# Altium footprint library adafruit.PCBLIB: 643 footprints (part 40 of 41)
Each footprint in its own frame and in the unit in brackets; x right, y up, seen from the top. Pads: shape width x height; smd on the part's side, far side on the other; paste and mask are expansions set on the pad; w line width, h text height; cw(c..) or ccw(c..) is an arc to the next point about the centre after c.
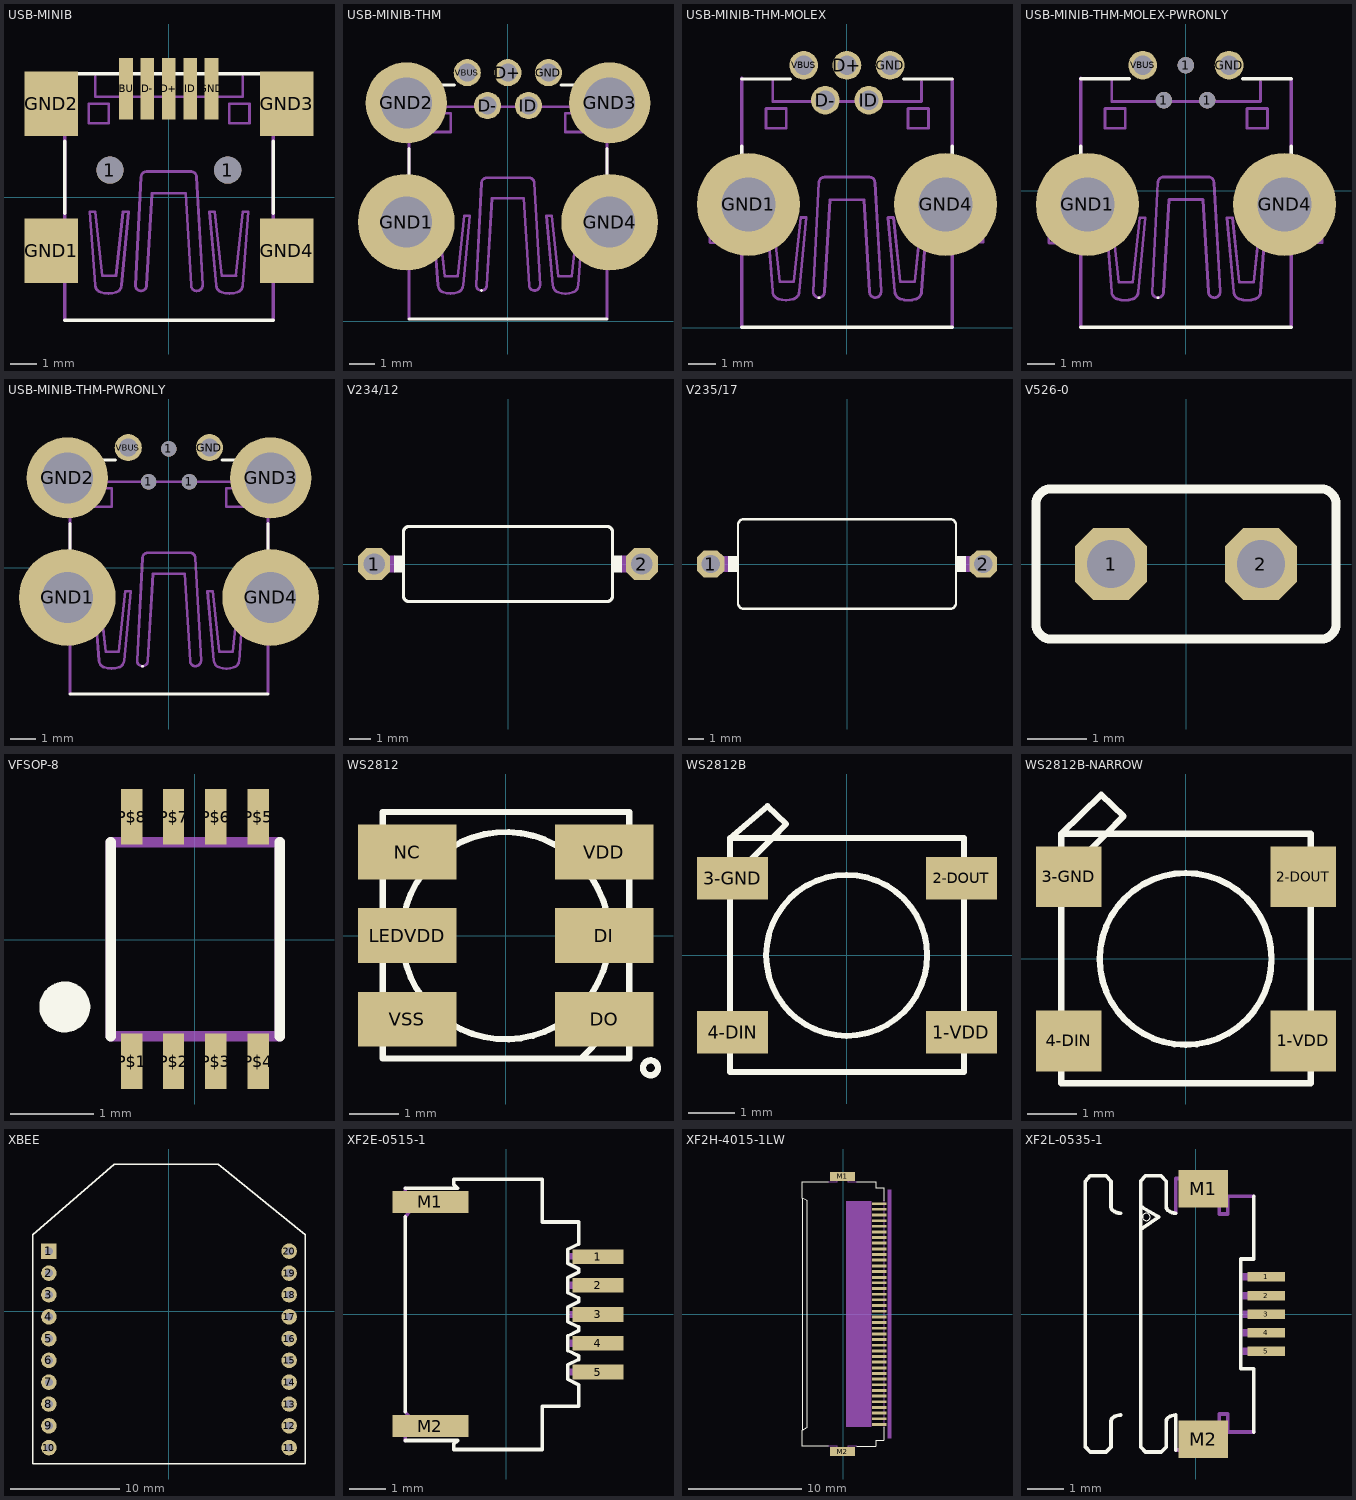
[diagram p39: the footprints below, top view; thin cyan lines are the x and y axes]

## USB-MINIB [mil]
pads (11):
  round 40 hole 40: 1(-86.61,40) 1(87,40)
  rect 20x91 smd: D+(0,160) D-(-31.5,160) GND(63,160) ID(32,160) VBUS(-62.99,160)
  rect 79x95 smd: GND1(-173.23,-78.74) GND2(-173.23,138) GND3(174,138) GND4(174,-78.74)
Top Overlay:
  lines w5: -153.54,-181.1 154,-181.1 ; -153.54,-23.62 -153.54,83 ; -153.54,182 154,182 ; -125.98,182 -82.68,182 ; 83,182 126,182 ; 154,-23.62 154,83
Courtyard Bottom:
  lines w4: -200,-105.12 -200,-91.34 ccw(c-200,-79.53) -200,-67.72 -200,-51.97 ; -200,113 -200,127 ccw(c-200,139) -200,151 -200,167 ; -199.21,-105.49 -153.94,-105.49 ; -199.21,-51.21 -153.94,-51.21 ; -199.21,113 -153.94,113 ; -199.21,167 -153.94,167 ; -108.27,178 -108.27,148 109,148 109,178 ; -40.88,-138.04 cw(c-40.88,-129.86) -49.05,-129.86 -40.88,30 cw(c-32.33,29.44) -32.7,38 33,38 cw(c32.54,29.54) 41,30 50,-129.86 cw(c41.41,-129.45) 41,-138.04 cw(c41.09,-129.95) 33,-129.86 25,6 -24.54,6 -32.7,-129.86 cw(c-40.87,-129.86) -40.87,-138.04 ; 153,-104.69 199,-104.69 ; 153,-50.42 199,-50.42 ; 153,114 199,114 ; 153,168 199,168 199,154 ccw(c199,142) 199,130 199,115 ; 199,-103.94 199,-88.19 cw(c199,-76.38) 199,-64.57 199,-50.79 ; -118.11,109 -88.58,109 -88.58,138 -118.11,138 -118.11,109 ; -116.5,-21.54 -108.32,-129.86 ccw(c-96.75,-128.98) -100.15,-140.08 ccw(c-88.91,-103.42) -77.67,-140.08 ccw(c-81.06,-128.98) -69.49,-129.86 -59.27,-21.54 -67.45,-21.54 -77.67,-115.56 -98.11,-115.56 -108.32,-21.54 -116.5,-21.54 ; 60,-21.54 70,-129.86 ccw(c81.48,-129.11) 78,-140.08 ccw(c89.5,-102.58) 101,-140.08 ccw(c97.52,-129.11) 109,-129.86 117,-21.54 109,-21.54 99,-115.56 78,-115.56 68,-21.54 60,-21.54 ; 89,109 89,138 119,138 119,109 89,109
  lines w5: -153.54,-181.1 -153.54,-106.3 ; -153.54,-50.79 -153.54,111 ; -153.54,168 -153.54,182 ; 154,-181.1 154,-106.3 ; 154,-48.82 154,113 ; 154,170 154,182

## USB-MINIB-THM [mil]
pads (9):
  round 42 hole 28: D+(0,386) D-(-31.5,335) GND(63,386) ID(32,335) VBUS(-62.99,386)
  round 150 hole 79: GND1(-157.48,154) GND4(158,154)
  round 126 hole 79: GND2(-157.48,339) GND3(158,339)
Top Overlay:
  lines w4: -40.88,48 -40.87,48
  lines w5: -153.54,4 154,4 ; -153.54,162 -153.54,268 ; -125.98,367 -82.68,367 ; 83,367 126,367 ; 154,186 154,268
Courtyard Bottom:
  lines w4: -200,128 -200,141 ccw(c-200,153) -200,165 -200,181 ; -200,299 -200,312 ccw(c-200,324) -200,336 -200,352 ; -199.21,127 -153.94,127 ; -199.21,182 -153.94,182 ; -199.21,298 -153.94,298 ; -199.21,352 -153.94,352 ; -108.27,363 -108.27,333 109,333 109,363 ; -40.88,48 cw(c-40.96,56.09) -49.05,56 -40.88,215 cw(c-32.33,214.44) -32.7,223 33,223 cw(c32.54,214.54) 41,215 50,56 cw(c41.5,56.5) 41,48 cw(c41,56) 33,56 25,191 -24.54,191 -32.7,56 cw(c-40.79,56.09) -40.87,48 ; 153,128 199,128 ; 153,182 199,182 199,168 ccw(c199,156.5) 199,145 199,129 ; 153,299 199,299 ; 153,353 199,353 199,339 ccw(c199,327) 199,315 199,300 ; -118.11,294 -88.58,294 -88.58,323 -118.11,323 -118.11,294 ; -116.5,164 -108.32,56 ccw(c-96.18,56.49) -100.15,45 ccw(c-88.91,81.66) -77.67,45 ccw(c-81.64,56.49) -69.49,56 -59.27,164 -67.45,164 -77.67,70 -98.11,70 -108.32,164 -116.5,164 ; 60,164 70,56 ccw(c82.06,56.36) 78,45 ccw(c89.5,82.5) 101,45 ccw(c96.94,56.36) 109,56 117,164 109,164 99,70 78,70 68,164 60,164 ; 89,294 89,323 119,323 119,294 89,294
  lines w5: -153.54,4 -153.54,126 ; -153.54,182 -153.54,296 ; -153.54,353 -153.54,367 ; 154,4 154,126 ; 154,184 154,298 ; 154,355 154,367

## USB-MINIB-THM-MOLEX [mil]
pads (7):
  round 42 hole 28: D+(0,383) D-(-31.5,332) GND(63,383) ID(32,332) VBUS(-62.99,383)
  round 150 hole 79: GND1(-143.7,180) GND4(144,180)
Top Overlay:
  lines w4: -40.88,44 -40.87,44
  lines w5: -153.54,1 154,1 ; -153.54,159 -153.54,265 ; -153.54,363 -82.68,363 ; 83,363 154,363 ; 154,182 154,265
Courtyard Bottom:
  lines w4: -200,125 -200,138 ccw(c-200,150) -200,162 -200,178 ; -199.21,124 -153.94,124 ; -199.21,178 -153.94,178 ; -108.27,360 -108.27,330 109,330 109,360 ; -40.88,44 cw(c-40.46,52.59) -49.05,53 -40.88,212 cw(c-32.33,211.44) -32.7,220 33,220 cw(c32.54,211.54) 41,212 50,53 cw(c41,53) 41,44 cw(c41.5,52.5) 33,53 25,187 -24.54,187 -32.7,53 cw(c-41.29,52.59) -40.87,44 ; 153,125 199,125 ; 153,179 199,179 199,165 ccw(c199,153) 199,141 199,126 ; -118.11,291 -88.58,291 -88.58,320 -118.11,320 -118.11,291 ; -116.5,161 -108.32,53 ccw(c-96.18,53.49) -100.15,42 ccw(c-88.91,78.66) -77.67,42 ccw(c-81.64,53.49) -69.49,53 -59.27,161 -67.45,161 -77.67,67 -98.11,67 -108.32,161 -116.5,161 ; 60,161 70,53 ccw(c82.06,53.36) 78,42 ccw(c89.5,79.5) 101,42 ccw(c96.94,53.36) 109,53 117,161 109,161 99,67 78,67 68,161 60,161 ; 89,291 89,320 119,320 119,291 89,291
  lines w5: -153.54,1 -153.54,123 ; -153.54,179 -153.54,364 ; 154,1 154,123 ; 154,181 154,362

## USB-MINIB-THM-MOLEX-PWRONLY [mil]
pads (7):
  round 24 hole 24: 1(-32,132) 1(0,183) 1(31,132)
  round 42 hole 28: GND(63,183) VBUS(-62.99,183)
  round 150 hole 79: GND1(-143.7,-20.08) GND4(144,-20.08)
Top Overlay:
  lines w4: -40.88,-156.15 -40.87,-156.15
  lines w5: -153.54,-199.21 154,-199.21 ; -153.54,-41.73 -153.54,65 ; -153.54,163 -82.68,163 ; 83,163 154,163 ; 154,-18.11 154,65
Courtyard Bottom:
  lines w4: -200,-75.98 -200,-62.2 ccw(c-200,-50.39) -200,-38.58 -200,-22.83 ; -199.21,-76.35 -153.94,-76.35 ; -199.21,-22.08 -153.94,-22.08 ; -108.27,160 -108.27,130 109,130 109,160 ; -40.88,-156.15 cw(c-40.88,-147.97) -49.05,-147.97 -40.88,12 cw(c-32.33,11.44) -32.7,20 33,20 cw(c32.54,11.54) 41,12 50,-147.97 cw(c41.41,-147.56) 41,-156.15 cw(c41.09,-148.06) 33,-147.97 25,-13.08 -24.54,-13.08 -32.7,-147.97 cw(c-40.87,-147.97) -40.87,-156.15 ; 153,-75.56 199,-75.56 ; 153,-21.28 199,-21.28 ; 199,-74.8 199,-59.06 cw(c199,-47.24) 199,-35.43 199,-21.65 ; -118.11,91 -88.58,91 -88.58,120 -118.11,120 -118.11,91 ; -116.5,-39.65 -108.32,-147.97 ccw(c-96.75,-147.09) -100.15,-158.19 ccw(c-88.91,-121.53) -77.67,-158.19 ccw(c-81.06,-147.09) -69.49,-147.97 -59.27,-39.65 -67.45,-39.65 -77.67,-133.67 -98.11,-133.67 -108.32,-39.65 -116.5,-39.65 ; 60,-39.65 70,-147.97 ccw(c81.48,-147.22) 78,-158.19 ccw(c89.5,-120.69) 101,-158.19 ccw(c97.52,-147.22) 109,-147.97 117,-39.65 109,-39.65 99,-133.67 78,-133.67 68,-39.65 60,-39.65 ; 89,91 89,120 119,120 119,91 89,91
  lines w5: -153.54,-199.21 -153.54,-77.17 ; -153.54,-21.65 -153.54,164 ; 154,-199.21 154,-77.17 ; 154,-19.68 154,162

## USB-MINIB-THM-PWRONLY [mil]
pads (9):
  round 24 hole 24: 1(-31.5,133) 1(0,184) 1(32,133)
  round 42 hole 28: GND(63,186) VBUS(-62.99,186)
  round 150 hole 79: GND1(-157.48,-46.46) GND4(158,-46.46)
  round 126 hole 79: GND2(-157.48,139) GND3(158,139)
Top Overlay:
  lines w4: -40.88,-153 -40.87,-153
  lines w5: -153.54,-196.06 154,-196.06 ; -153.54,-38.58 -153.54,68 ; -125.98,167 -82.68,167 ; 83,167 126,167 ; 154,-14.96 154,68
Courtyard Bottom:
  lines w4: -200,-72.83 -200,-59.06 ccw(c-200,-47.24) -200,-35.43 -200,-19.68 ; -200,99 -200,112 ccw(c-200,124) -200,136 -200,152 ; -199.21,-73.2 -153.94,-73.2 ; -199.21,-18.93 -153.94,-18.93 ; -199.21,98 -153.94,98 ; -199.21,152 -153.94,152 ; -108.27,163 -108.27,133 109,133 109,163 ; -40.88,-153 cw(c-40.88,-144.82) -49.05,-144.82 -40.88,15 cw(c-32.33,14.44) -32.7,23 33,23 cw(c32.54,14.54) 41,15 50,-144.82 cw(c41.41,-144.41) 41,-153 cw(c41.09,-144.91) 33,-144.82 25,-9.93 -24.54,-9.93 -32.7,-144.82 cw(c-40.87,-144.82) -40.87,-153 ; 153,-72.41 199,-72.41 ; 153,-18.13 199,-18.13 ; 153,99 199,99 ; 153,153 199,153 199,139 ccw(c199,127) 199,115 199,100 ; 199,-71.65 199,-55.91 cw(c199,-44.09) 199,-32.28 199,-18.5 ; -118.11,94 -88.58,94 -88.58,123 -118.11,123 -118.11,94 ; -116.5,-36.5 -108.32,-144.82 ccw(c-96.75,-143.94) -100.15,-155.04 ccw(c-88.91,-118.38) -77.67,-155.04 ccw(c-81.06,-143.94) -69.49,-144.82 -59.27,-36.5 -67.45,-36.5 -77.67,-130.52 -98.11,-130.52 -108.32,-36.5 -116.5,-36.5 ; 60,-36.5 70,-144.82 ccw(c81.48,-144.07) 78,-155.04 ccw(c89.5,-117.54) 101,-155.04 ccw(c97.52,-144.07) 109,-144.82 117,-36.5 109,-36.5 99,-130.52 78,-130.52 68,-36.5 60,-36.5 ; 89,94 89,123 119,123 119,94 89,94
  lines w5: -153.54,-196.06 -153.54,-74.02 ; -153.54,-18.5 -153.54,96 ; -153.54,153 -153.54,167 ; 154,-196.06 154,-74.02 ; 154,-16.54 154,98 ; 154,155 154,167

## V234/12 [mil]
pads (2):
  oct 60x60 hole 40: 1(-250,0) 2(250,0)
Top Overlay:
  rectangle: 195,-16 213,16
  rectangle: -213,-16 -195,16
  lines w6: -195,-60 ccw(c-185,-60) -185,-70 185,-70 ccw(c185,-60) 195,-60 195,60 ccw(c185,60) 185,70 -185,70 ccw(c-185,60) -195,60 -195,-60
Courtyard Bottom:
  lines w32: -250,0 -215,0 ; 215,0 250,0

## V235/17 [mil]
pads (2):
  oct 70.5x70.5 hole 47: 1(-350,0) 2(350,0)
Top Overlay:
  rectangle: 280,-20 305,20
  rectangle: -305,-20 -280,20
  lines w6: -280,-100 -280,100 cw(c-265,100) -265,115 265,115 cw(c265,100) 280,100 280,-100 cw(c265,-100) 265,-115 -265,-115 cw(c-265,-100) -280,-100
Courtyard Bottom:
  lines w40: -350,0 -310,0 ; 310,0 350,0

## V526-0 [mil]
pads (2):
  oct 48x48 hole 32: 1(-50,0) 2(50,0)
Top Overlay:
  lines w6: -100,-40 ccw(c-90,-40) -90,-50 90,-50 ccw(c90,-40) 100,-40 100,40 ccw(c90,40) 90,50 -90,50 ccw(c-90,40) -100,40 -100,-40

## VFSOP-8 [mil]
pads (8):
  rect 10x26 smd: P$1(-29.53,-57.09) P$2(-9.84,-57.09) P$3(10,-57.09) P$4(30,-57.09) P$5(30,58) P$6(10,58) P$7(-9.84,58) P$8(-29.53,58)
Top Overlay:
  circle w12: c-61.02,-31.5 r6
  lines w5: -39.37,-45.28 -39.37,46 ; 40,-45.28 40,46
Courtyard Bottom:
  rectangle: -13.78,-61.02 -5.91,-45.28
  rectangle: -33.46,-61.02 -25.59,-45.28
  rectangle: 6,-61.02 14,-45.28
  rectangle: 26,-61.02 34,-45.28
  rectangle: 26,46 34,62
  rectangle: 6,46 14,62
  rectangle: -13.78,46 -5.91,62
  rectangle: -33.46,46 -25.59,62
  lines w5: -39.37,-45.28 40,-45.28 40,46 -39.37,46 -39.37,-45.28

## WS2812 [mil]
pads (6):
  rect 79x44 smd: DI(79,0) DO(79,-66.93) LEDVDD(-78.74,0) NC(-78.74,67) VDD(79,67) VSS(-78.74,-66.93)
Top Overlay:
  circle w5: c116,-105.83 r6
  circle w5: c0,0 r83
  lines w5: 60,-98.43 99,-98.43 99,-59.06 ; 60,-98.43 -98.43,-98.43 -98.43,99 99,99 99,-59.06 ; 60,-98.43 99,-59.06

## WS2812B [mil]
pads (4):
  rect 60x36 smd: 1-VDD(97,-64.96) 2-DOUT(97,65) 3-GND(-96.46,65) 4-DIN(-96.46,-64.96)
Top Overlay:
  circle w5: c0,0 r68
  lines w5: -98.43,63 -98.43,-98.43 99,-98.43 99,99 -62.99,99 ; -98.43,63 -98.43,99 ; -98.43,63 -62.99,99 ; -98.43,99 -62.99,99 ; -98.43,99 -66.93,126 -51.18,111 -62.99,99

## WS2812B-NARROW [mil]
pads (4):
  rect 52x48 smd: 1-VDD(93,-64.96) 2-DOUT(93,65) 3-GND(-92.52,65) 4-DIN(-92.52,-64.96)
Top Overlay:
  circle w5: c0,0 r68
  lines w5: -98.43,63 -98.43,-98.43 99,-98.43 99,99 -62.99,99 ; -98.43,63 -98.43,99 ; -98.43,63 -62.99,99 ; -98.43,99 -62.99,99 ; -98.43,99 -66.93,130 -49.21,113 -62.99,99

## XBEE [mil]
pads (20):
  rect 56x56 hole 28: 1(-433.07,217)
  round 56 hole 28: 2(-433.07,138) 3(-433.07,60) 4(-433.07,-19.68) 5(-433.07,-98.43) 6(-433.07,-177.17) 7(-433.07,-255.91) 8(-433.07,-334.65) 9(-433.07,-413.39) 10(-433.07,-492.13) 11(434,-492.13) 12(434,-413.39) 13(434,-334.65) 14(434,-255.91) 15(434,-177.17) 16(434,-98.43) 17(434,-19.68) 18(434,60) 19(434,138) 20(434,217)
Top Overlay:
  lines w5: -492.13,-551.18 493,-551.18 493,276 178,532 -196.85,532 -492.13,276 -492.13,-551.18

## XF2E-0515-1 [mil]
pads (7):
  rect 56x16 smd: 1(100,63) 2(100,32) 3(100,0) 4(100,-31.5) 5(100,-62.99)
  rect 83x24 smd: M1(-83.07,123) M2(-83.07,-122.05)
Top Overlay:
  lines w4: -110.63,-137.8 -53.54,-137.8 -57.48,-141.73 -57.48,-147.64 39,-147.64 39,-100.39 79,-100.39 79,-76.77 67,-70.87 67,-55.12 79,-49.21 79,-45.28 67,-39.37 67,-23.62 79,-17.72 79,-13.78 67,-7.87 67,8 79,14 79,18 67,24 67,40 79,46 79,50 67,56 67,71 79,77 79,101 39,101 39,148 -57.48,148 -57.48,142 -53.54,138 -110.63,138 ; -110.63,-106.3 -110.63,107
Courtyard Bottom:
  rectangle: 69,60 108,67
  rectangle: 69,28 108,36
  rectangle: 69,-3.94 108,4
  rectangle: 69,-35.43 108,-27.56
  rectangle: 69,-66.93 108,-59.06
  lines w4: -110.63,-137.8 -110.63,-116.14 -102.76,-116.14 -110.63,-106.3 ; -110.63,107 -102.76,117 -110.63,117 -110.63,138

## XF2H-4015-1LW [mil]
pads (42):
  rect 52x10 smd: 1(125,384) 2(125,365) 3(125,345) 4(125,325) 5(125,306) 6(125,286) 7(125,266) 8(125,247) 9(125,227) 10(125,207) 11(125,188) 12(125,168) 13(125,148) 14(125,128) 15(125,109) 16(125,89) 17(125,69) 18(125,50) 19(125,30) 20(125,10) 21(125,-9.84) 22(125,-29.53) 23(125,-49.21) 24(125,-68.9) 25(125,-88.58) 26(125,-108.27) 27(125,-127.95) 28(125,-147.64) 29(125,-167.32) 30(125,-187.01) 31(125,-206.69) 32(125,-226.38) 33(125,-246.06) 34(125,-265.75) 35(125,-285.43) 36(125,-305.12) 37(125,-324.8) 38(125,-344.49) 39(125,-364.17) 40(125,-383.86)
  rect 87x32 smd: M1(-2.95,479) M2(-2.95,-478.35)
Top Overlay:
  lines w4: -52.17,-460.63 -142.72,-460.63 -142.72,-403.54 ; -52.17,461 -142.72,461 -142.72,404 ; 47,-460.63 112,-460.63 112,-438.98 141,-438.98 141,-393.7 ; 47,461 112,461 112,439 141,439 141,394 ; -142.72,-403.54 -125,-393.7 -125,394 -142.72,404 ; -142.72,-403.54 -142.72,404
Top Solder:
  rectangle: 98,377 153,391
  rectangle: 98,358 153,372
  rectangle: 98,338 153,352
  rectangle: 98,318 153,332
  rectangle: 98,299 153,313
  rectangle: 98,279 153,293
  rectangle: 98,259 153,273
  rectangle: 98,240 153,253
  rectangle: 98,220 153,234
  rectangle: 98,200 153,214
  rectangle: 98,181 153,194
  rectangle: 98,161 153,175
  rectangle: 98,141 153,155
  rectangle: 98,122 153,135
  rectangle: 98,102 153,116
  rectangle: 98,82 153,96
  rectangle: 98,63 153,76
  rectangle: 98,43 153,57
  rectangle: 98,23 153,37
  rectangle: 98,3 153,17
  rectangle: 98,-16.73 153,-2.95
  rectangle: 98,-36.42 153,-22.64
  rectangle: 98,-56.1 153,-42.32
  rectangle: 98,-75.79 153,-62.01
  rectangle: 98,-95.47 153,-81.69
  rectangle: 98,-115.16 153,-101.38
  rectangle: 98,-134.84 153,-121.06
  rectangle: 98,-154.53 153,-140.75
  rectangle: 98,-174.21 153,-160.43
  rectangle: 98,-193.9 153,-180.12
  rectangle: 98,-213.58 153,-199.8
  rectangle: 98,-233.27 153,-219.49
  rectangle: 98,-252.95 153,-239.17
  rectangle: 98,-272.64 153,-258.86
  rectangle: 98,-292.32 153,-278.54
  rectangle: 98,-312.01 153,-298.23
  rectangle: 98,-331.69 153,-317.91
  rectangle: 98,-351.38 153,-337.6
  rectangle: 98,-371.06 153,-357.28
  rectangle: 98,-390.75 153,-376.97
Mechanical 10:
  rectangle: 9,-393.7 98,394
Courtyard Bottom:
  lines w4: -52.17,-460.63 -20.67,-460.63 -20.67,-472.44 15,-472.44 15,-460.63 47,-460.63 ; -52.17,461 -20.67,461 -20.67,473 15,473 15,461 47,461 ; 141,-393.7 141,394
Mech37:
  rectangle: 153,-433.07 168,434

## XF2L-0535-1 [mil]
pads (7):
  rect 40x10 smd: 1(75,40) 2(75,20) 3(75,0) 4(75,-19.68) 5(75,-39.37)
  rect 53x40 smd: M1(8,134) M2(8,-133.37)
Top Overlay:
  circle w0: c-52.8,104 r4
  lines w4: -80.33,-107.5 ccw(c-80.32,-120.82) -88.72,-110.48 ccw(c-85.54,-114.4) -90.59,-114.4 -90.59,-141.64 -96,-147.05 -112.79,-147.05 -117.91,-141.73 -117.91,142 -112.79,148 -96,148 -90.59,142 -90.59,115 ccw(c-85.46,114.96) -88.72,111 ccw(c-80.3,121.33) -80.33,108 ; -56.72,92 -39.56,104 -56.72,114 ; -21.27,-145 -21.27,-107.5 ccw(c-21.27,-120.82) -29.67,-110.48 ccw(c-26.49,-114.4) -31.54,-114.4 -31.54,-141.64 -36.95,-147.05 -53.74,-147.05 -58.86,-141.73 -58.86,142 -53.74,148 -36.95,148 -31.54,142 -31.54,115 ccw(c-26.4,114.96) -29.67,111 ccw(c-21.24,121.33) -21.27,108 ; 61,59 48,59 48,-58.24 62,-58.24 62,-125.59 ; 62,59 62,126
Top Solder:
  rectangle: 54,33 97,47
  rectangle: 54,13 97,27
  rectangle: 54,-6.89 97,7
  rectangle: 54,-26.57 97,-12.8
  rectangle: 54,-46.26 97,-32.48
Courtyard Bottom:
  rectangle: 5,-145.67 32,-125
  rectangle: -17.52,-145.67 5,-114.17
  rectangle: 5,-145.67 32,-125
  rectangle: -17.52,-145.67 5,-114.17
  rectangle: 5,125 32,146
  rectangle: -17.52,115 5,146
  rectangle: 50,36 78,44
  rectangle: 50,16 78,24
  rectangle: 50,-3.94 78,4
  rectangle: 50,-23.62 78,-15.75
  rectangle: 50,-43.31 78,-35.43
  lines w4: -21.27,-145 21,-145 21,-125.97 -0.75,-125.97 -0.75,-120.19 25,-120.19 25,-106.56 34,-106.56 34,-125.59 62,-125.59 ; -21.27,108 -21.27,145 21,145 21,126 -0.75,126 -0.75,121 25,121 25,107 34,107 34,126 62,126
  text "Lower-contact" at -19.68,89 h13.6